# EAGLE library part MSP2807(LCD_SPI_WITH_SDCARD (library FaBo-Boards)
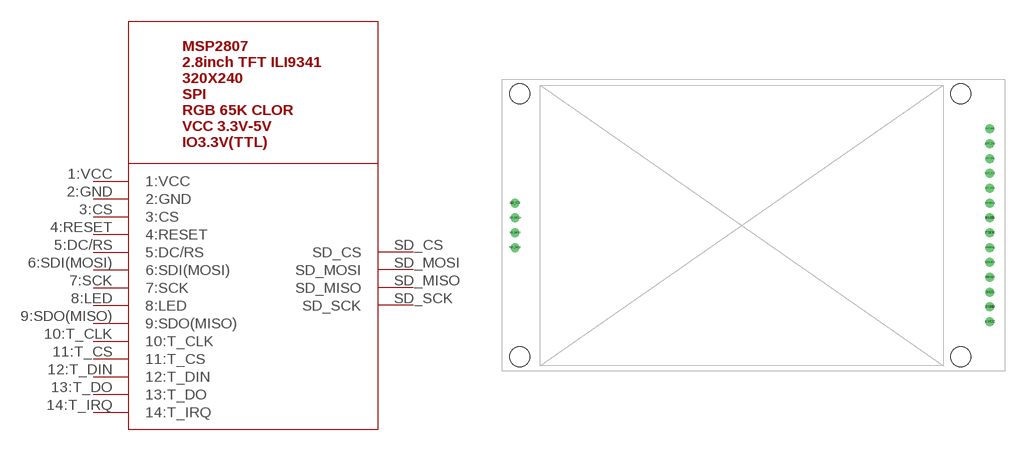
[diagram p20: symbol with the pads of SPI_LCD_MSP2807; footprint SPI_LCD_MSP2807]

Designator prefix -

## MSP2807(LCD_SPI_WITH_SDCARD  [SPI_LCD_MSP2807]
1:VCC  1:VCC
2:GND  2:GND
3:CS  3:CS
4:RESET  4:RESET
5:DC/RS  5:DC/RS
6:SDI(MOSI)  6:SDI(MOSI)
7:SCK  7:SCK
8:LED  8:LED
9:SDO(MISO)  9:SDO(MISO)
10:T_CLK  10:T_CLK
11:T_CS  11:T_CS
12:T_DIN  12:T_DIN
13:T_DO  13:T_DO
14:T_IRQ  14:T_IRQ
SD_CS  SD_CS  in
SD_MISO  SD_MISO  out
SD_MOSI  SD_MOSI  in
SD_SCK  SD_SCK  in

## Footprint SPI_LCD_MSP2807 (pad centres in mm)
drill 1.02: 1:VCC 0,-16.51; 2:GND 0,-13.97; 3:CS 0,-11.43; 4:RESET 0,-8.89; 5:DC/RS 0,-6.35; 6:SDI(MOSI) 0,-3.81; 7:SCK 0,-1.27; 8:LED 0,1.27; 9:SDO(MISO) 0,3.81; 10:T_CLK 0,6.35; 11:T_CS 0,8.89; 12:T_DIN 0,11.43; 13:T_DO 0,13.97; 14:T_IRQ 0,16.51; SD_CS -81.28,3.81; SD_MISO -81.28,-1.27; SD_MOSI -81.28,1.27; SD_SCK -81.28,-3.81